# Altium schematic symbol library 35MMSTEREOJACK.Schlib: 1 symbol
Pins are listed as number, name and electrical type; pins without a type are passive.

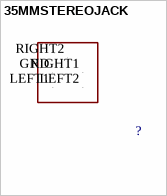
[diagram p0: symbol 35MMSTEREOJACK]

## 35MMSTEREOJACK
designator ?
footprint PG203J
pins: GND P$1, LEFT1 P$2, LEFT2 P$3, RIGHT1 P$4, RIGHT2 P$5